# EAGLE library part OSHCHIP (library OSHChip)
Nordic nRF51822-based microcontroller board The OSHChip <http://oshchip.org> is an open-source hardware microcontroller board in a DIP-16 form factor. Specifications: ARM Cortex-M0 32 bit processor running at 16 MHz 2.4 GHz Bluetooth Low Energy radio Broad range of built-in Peripheral functions 256 KBytes of Flash memory for program and data 32 KBytes of SRAM Miniature packaging, compatible with bread board construction Support for in-system debugging including breakpoints
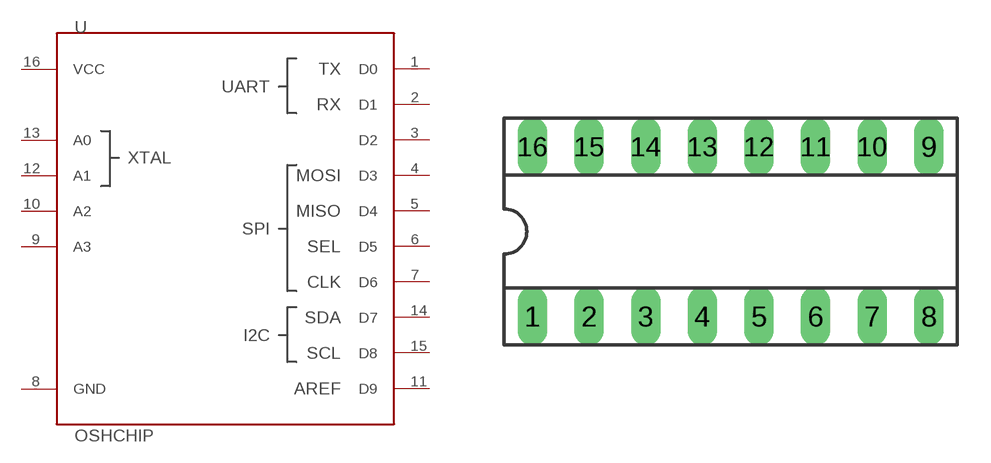
[diagram p0: symbol with the pads of SOCKET-16; footprint SOCKET-16]

Designator prefix U

## OSHCHIPSOCKETED  [SOCKET-16]
1  D0
2  D1
3  D2
4  D3
5  D4
6  D5
7  D6
8  GND
9  A3
10  A2
11  D9
12  A1
13  A0
14  D7
15  D8
16  VCC

## Footprint SOCKET-16 (pad centres in mm)
Dual In Line Socket
drill 0.813 long: 1 -8.89,-3.81; 2 -6.35,-3.81; 3 -3.81,-3.81; 4 -1.27,-3.81; 5 1.27,-3.81; 6 3.81,-3.81; 7 6.35,-3.81; 8 8.89,-3.81; 9 8.89,3.81; 10 6.35,3.81; 11 3.81,3.81; 12 1.27,3.81; 13 -1.27,3.81; 14 -3.81,3.81; 15 -6.35,3.81; 16 -8.89,3.81